# EAGLE library part 8X03 (library magzor-connectors)
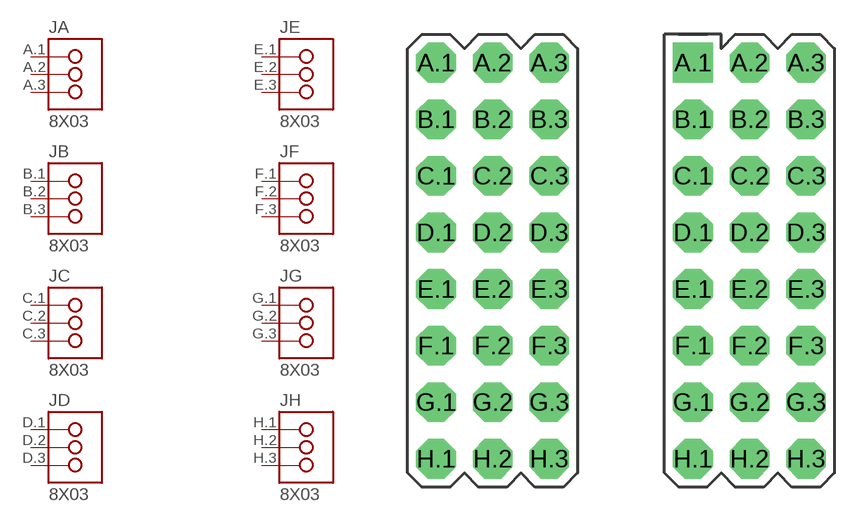
[diagram p11: symbol with the pads of P0.1IN-8X03; footprints P0.1IN-8X03, P0.1IN-8X03-1SQ]

Designator prefix J; gates A=1X03 B=1X03 C=1X03 D=1X03 E=1X03 F=1X03 G=1X03 H=1X03

## 8X03-0.1IN  [P0.1IN-8X03]
A.1  A:1
A.2  A:2
A.3  A:3
B.1  B:1
B.2  B:2
B.3  B:3
C.1  C:1
C.2  C:2
C.3  C:3
D.1  D:1
D.2  D:2
D.3  D:3
E.1  E:1
E.2  E:2
E.3  E:3
F.1  F:1
F.2  F:2
F.3  F:3
G.1  G:1
G.2  G:2
G.3  G:3
H.1  H:1
H.2  H:2
H.3  H:3

## 8X03-0.1IN-1SQ  [P0.1IN-8X03-1SQ]
Pads as for P0.1IN-8X03

## Footprint P0.1IN-8X03 (pad centres in mm)
drill 0.965 pad 1.778 octagon: A.1 -2.54,8.89; A.2 0,8.89; A.3 2.54,8.89; B.1 -2.54,6.35; B.2 0,6.35; B.3 2.54,6.35; C.1 -2.54,3.81; C.2 0,3.81; C.3 2.54,3.81; D.1 -2.54,1.27; D.2 0,1.27; D.3 2.54,1.27; E.1 -2.54,-1.27; E.2 0,-1.27; E.3 2.54,-1.27; F.1 -2.54,-3.81; F.2 0,-3.81; F.3 2.54,-3.81; G.1 -2.54,-6.35; G.2 0,-6.35; G.3 2.54,-6.35; H.1 -2.54,-8.89; H.2 0,-8.89; H.3 2.54,-8.89

## Footprint P0.1IN-8X03-1SQ (pad centres in mm)
drill 0.965 pad 1.778 square: A.1 -2.54,8.89
drill 0.965 pad 1.778 octagon: A.2 0,8.89; A.3 2.54,8.89; B.1 -2.54,6.35; B.2 0,6.35; B.3 2.54,6.35; C.1 -2.54,3.81; C.2 0,3.81; C.3 2.54,3.81; D.1 -2.54,1.27; D.2 0,1.27; D.3 2.54,1.27; E.1 -2.54,-1.27; E.2 0,-1.27; E.3 2.54,-1.27; F.1 -2.54,-3.81; F.2 0,-3.81; F.3 2.54,-3.81; G.1 -2.54,-6.35; G.2 0,-6.35; G.3 2.54,-6.35; H.1 -2.54,-8.89; H.2 0,-8.89; H.3 2.54,-8.89